# Altium schematic symbol library THD Sensors.SchLib: 1 symbol
Pins are listed as number, name and electrical type; pins without a type are passive.

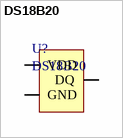
[diagram p0: symbol DS18B20]

## DS18B20
designator U?
Programmable Resolution 1-Wire Temperature Sensor
footprint TO-92-1 (TO, Flat Index; 3 In-Line, Axial Leads; Body Dia. 4.5mm; Leads 0.51 x 0.48 mm (max))
pins: 1 GND, 2 DQ, 3 VDD